# Altium schematic symbol library Passive_Component.SchLib: 4 symbols
Pins are listed as number, name and electrical type; pins without a type are passive.

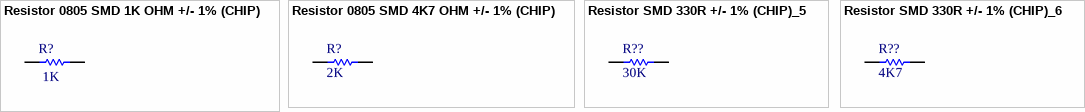
[diagram p0: symbols Resistor 0805 SMD 1K OHM +/- 1% (CHIP) to Resistor SMD 330R +/- 1% (CHIP)_6]

## Resistor 0805 SMD 1K OHM +/- 1% (CHIP)
designator R?, comment 1K
'RES SMD 1K OHM 1% 1/8W 0805/0805W8F1001T5E
footprint 0805 Modificado (Chip Resistor, Empaque 0805)
pins: 1, 2

## Resistor 0805 SMD 4K7 OHM +/- 1% (CHIP)
designator R?, comment 2K
'RES SMD 4.7K OHM 1% 1/8W 0805/0805W8F4701T5E
footprint 0805 Modificado (Chip Resistor, Empaque 0805)
pins: 1, 2

## Resistor SMD 330R +/- 1% (CHIP)_5
designator R??, comment 30K
'RES SMD 330 OHM 5% 1/8W 0805/0805W8F3300T5E; RMPN: RMELCRSTS010
footprint 0805 Modificado (Chip Resistor, Empaque 0805)
pins: 1, 2

## Resistor SMD 330R +/- 1% (CHIP)_6
designator R??, comment 4K7
'RES SMD 330 OHM 5% 1/8W 0805/0805W8F3300T5E; RMPN: RMELCRSTS010
footprint 0805 Modificado (Chip Resistor, Empaque 0805)
pins: 1, 2